# Altium footprint library UserPcbLib.PcbLib: 107 footprints (part 5 of 7)
Each footprint in its own frame and in the unit in brackets; x right, y up, seen from the top. Pads: shape width x height; smd on the part's side, far side on the other; paste and mask are expansions set on the pad; w line width, h text height; cw(c..) or ccw(c..) is an arc to the next point about the centre after c.
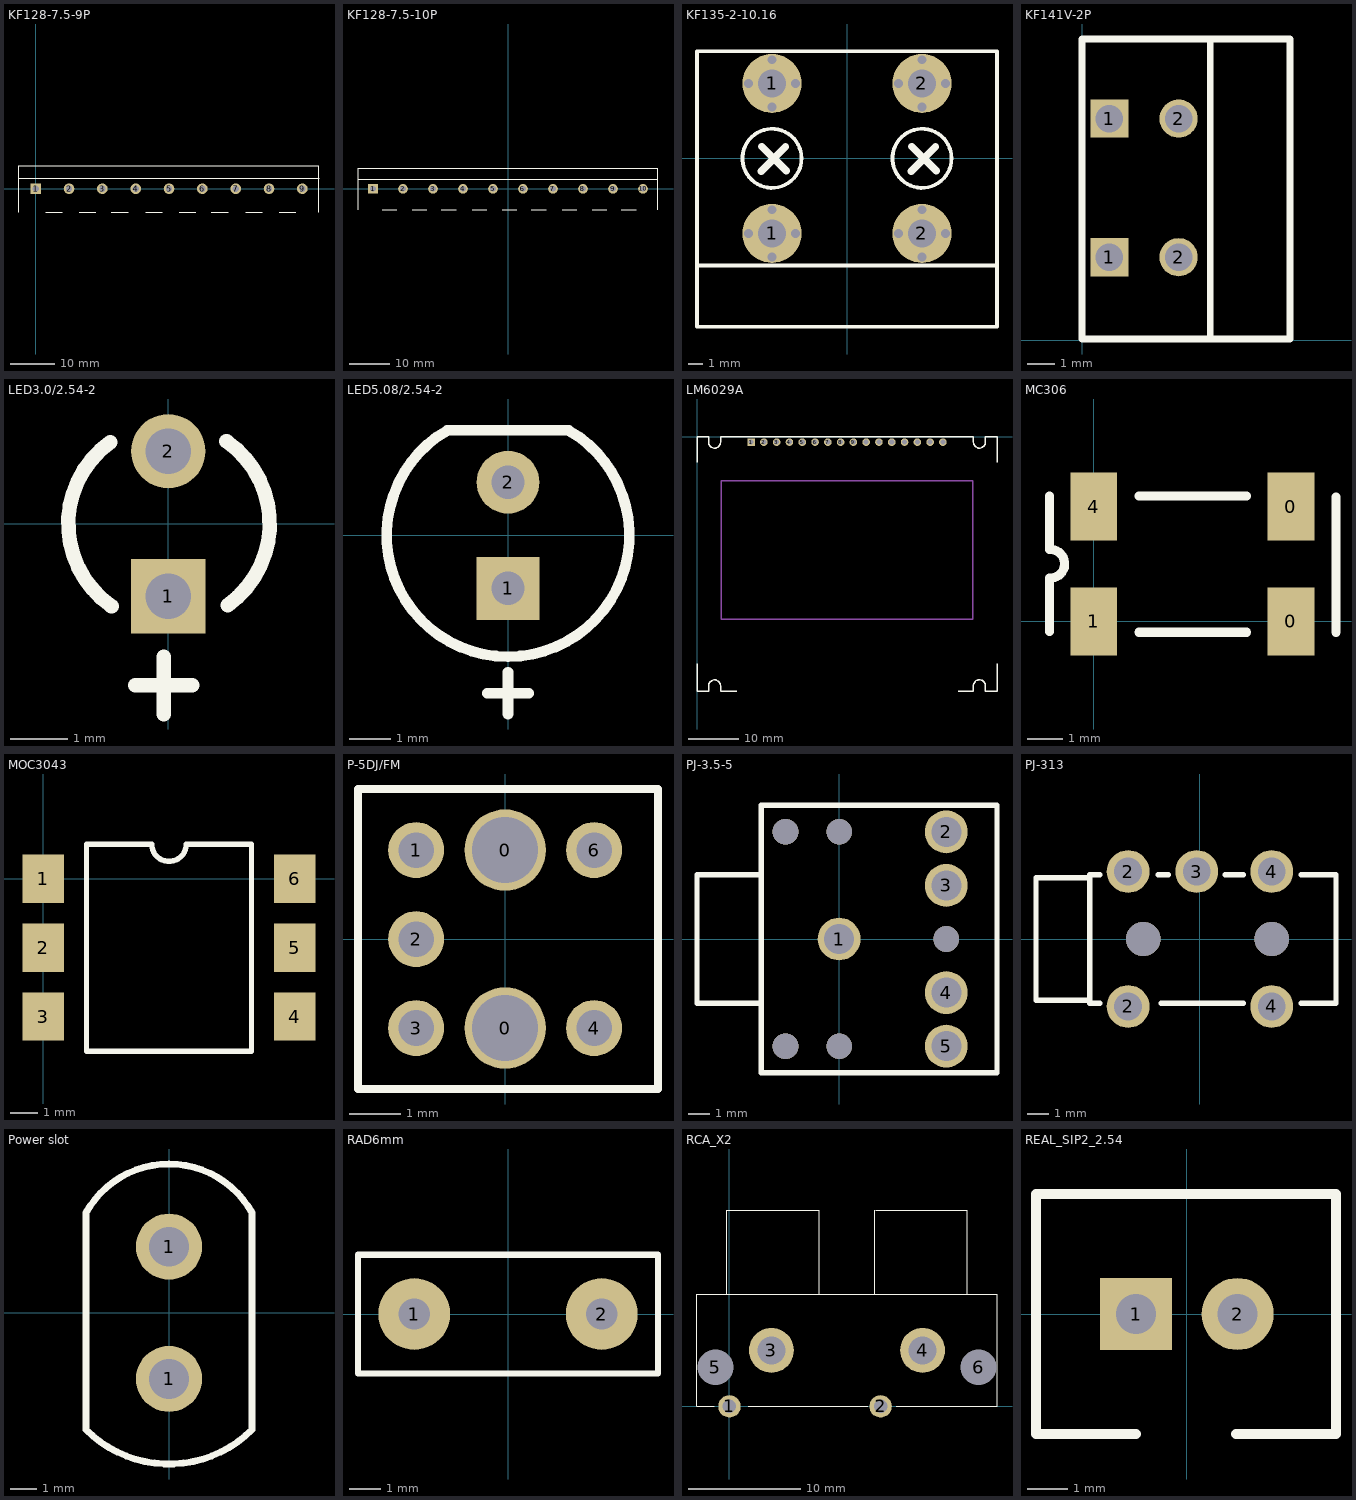
[diagram p4: the footprints below, top view; thin cyan lines are the x and y axes]

## KF128-7.5-9P [mm]
height 14.1
pads (9):
  rect 2.4x2.4 hole 1.4: 1(0,0)
  round 2.4 hole 1.4: 2(7.5,0) 3(15,0) 4(22.5,0) 5(30,0) 6(37.5,0) 7(45,0) 8(52.5,0) 9(60,0)
Top Overlay:
  lines w0.254: -3.766,-5.3 -3.766,5.2 63.734,5.2 63.734,-5.3 ; -3.75,2.406 63.736,2.406 ; 2.256,-5.3 5.988,-5.3 ; 9.756,-5.3 13.488,-5.3 ; 17.033,-5.3 20.764,-5.3 ; 24.756,-5.3 28.488,-5.3 ; 32.256,-5.3 35.988,-5.3 ; 39.533,-5.3 43.264,-5.3 ; 47.256,-5.3 50.988,-5.3 ; 54.756,-5.3 58.488,-5.3
3D body: height 8.5, standoff 0.1, extent -3.766,-5.283 63.715,5.207

## KF128-7.5-10P [mm]
height 14.1
pads (10):
  rect 2.4x2.4 hole 1.4: 1(-33.75,0)
  round 2.4 hole 1.4: 2(-26.25,0) 3(-18.75,0) 4(-11.25,0) 5(-3.75,0) 6(3.75,0) 7(11.25,0) 8(18.75,0) 9(26.25,0) 10(33.75,0)
Top Overlay:
  lines w0.254: -37.5,-5.3 -37.5,5.2 37.5,5.2 37.5,-5.3 ; -37.5,2.406 37.5,2.406 ; -31.494,-5.3 -27.762,-5.3 ; -23.994,-5.3 -20.262,-5.3 ; -16.717,-5.3 -12.986,-5.3 ; -8.994,-5.3 -5.262,-5.3 ; -1.494,-5.3 2.238,-5.3 ; 5.783,-5.3 9.514,-5.3 ; 13.506,-5.3 17.238,-5.3 ; 21.006,-5.3 24.738,-5.3 ; 28.283,-5.3 32.014,-5.3
3D body: height 8.5, standoff 0.1, extent -37.516,-5.283 37.516,5.207

## KF135-2-10.16 [mm]
height 29.5
pads (4):
  round 4 hole 1.9: 1(-5.08,-5.08) 1(-5.08,5.08) 2(5.08,-5.08) 2(5.08,5.08)
via -5.08,-6.68 diameter 0.8 hole 0.6
via -5.08,-3.48 diameter 0.8 hole 0.6
via -6.68,-5.08 diameter 0.8 hole 0.6
via -3.48,-5.08 diameter 0.8 hole 0.6
via 6.68,-5.08 diameter 0.8 hole 0.6
via 3.48,-5.08 diameter 0.8 hole 0.6
via 5.08,-3.48 diameter 0.8 hole 0.6
via 5.08,-6.68 diameter 0.8 hole 0.6
via -3.48,5.08 diameter 0.8 hole 0.6
via -6.68,5.08 diameter 0.8 hole 0.6
via -5.08,6.68 diameter 0.8 hole 0.6
via -5.08,3.48 diameter 0.8 hole 0.6
via 6.68,5.08 diameter 0.8 hole 0.6
via 3.48,5.08 diameter 0.8 hole 0.6
via 5.08,6.68 diameter 0.8 hole 0.6
via 5.08,3.48 diameter 0.8 hole 0.6
Top Overlay:
  circle w0.254: c-5.08,0 r2
  circle w0.254: c5.08,0 r2
  lines w0.254: -10.16,-7.25 10.16,-7.25 ; -10.16,-11.4 10.16,-11.4 10.16,7.25 -10.16,7.25 -10.16,-11.4
  lines w0.5: -5.817,-0.864 -4.166,0.787 ; -5.768,0.803 -4.117,-0.848 ; 4.343,-0.864 5.994,0.787 ; 4.392,0.803 6.043,-0.848
3D body: height 29.5, standoff 0, extent -10.287,-11.4 10.16,7.32

## KF141V-2P [mm] "screwless connector 2 pins"
height 13.8
pads (4):
  rect 1.4x1.4 hole 1: 1(0.991,3.048) 1(0.991,8.128)
  round 1.4 hole 1: 2(3.531,3.048) 2(3.531,8.128)
Top Overlay:
  lines w0.254: 4.69,0.073 4.69,11.048 ; 7.611,10.997 7.611,0.048 -0.009,0.048 -0.009,11.048 7.611,11.048
3D body: height 13.8, standoff 0, extent -0.025,0.051 7.645,11.024

## LED3.0/2.54-2 [mm]
height 5.3
pads (2):
  rect 1.3x1.3 hole 0.8: 1(0,-1.27)
  round 1.3 hole 0.8: 2(0,1.27)
Top Overlay:
  lines w0.254: -1.017,1.424 ccw(c0,0) -0.994,-1.441 ; -0.576,-2.83 0.424,-2.83 ; -0.076,-3.33 -0.076,-2.33 ; 1.019,1.441 cw(c0.025,0) 1.043,-1.424
3D body: height 5.3, standoff 0, extent -1.773,-1.801 1.727,1.699

## LED5.08/2.54-2 [mm]
pads (2):
  rect 1.5x1.5 hole 0.8: 1(0,-1.27)
  round 1.5 hole 0.8: 2(0,1.27)
Top Overlay:
  lines w0.254: -0.5,-3.77 0.5,-3.77 ; 0,-4.27 0,-3.27 ; -1.45,2.511 ccw(c0,0) 1.45,2.511 -1.45,2.511
3D body: height 9.69, standoff 0, extent -2.946,-3.15 2.954,2.75

## LM6029A [mm] "LCD module"
pads (16):
  rect 1.5x1.5 hole 1: 1(10.75,-1.1)
  round 1.5 hole 1: 2(13.29,-1.1) 3(15.83,-1.1) 4(18.37,-1.1) 5(20.91,-1.1) 6(23.45,-1.1) 7(25.99,-1.1) 8(28.53,-1.1) 9(31.07,-1.1) 10(33.61,-1.1) 11(36.15,-1.1) 12(38.69,-1.1) 13(41.23,-1.1) 14(43.77,-1.1) 15(46.31,-1.1) 16(48.85,-1.1)
Top Overlay:
  lines w0.254: 0,-45.085 0,-50.6 2.32,-50.6 2.32,-49.5 cw(c3.5,-49.5) 4.68,-49.5 4.68,-50.603 7.893,-50.603 ; 0,-5.08 0,0 2.32,0 2.32,-1.103 ccw(c3.5,-1.103) 4.68,-1.103 4.68,-0.003 54.914,-0.003 ; 51.914,-50.6 54.915,-50.6 54.915,-49.495 cw(c56.095,-49.495) 57.275,-49.495 57.275,-50.598 ; 54.92,0.003 54.92,-1.1 ccw(c56.1,-1.1) 57.28,-1.1 57.28,0 59.6,0 59.6,-5.08 ; 57.277,-50.6 59.6,-50.6 59.6,-45.085
Mechanical 1:
  lines w0.254: 4.855,-36.29 54.745,-36.29 54.745,-8.8 4.855,-8.8 4.855,-36.29
3D body: height 8.24, standoff 2.54, extent 0,-50.597 59.6,0.003

## MC306 [mm] "Epson 32.768kHz crystal"
height 2.54
pads (4):
  rect 1.3x1.9 smd: 0(5.5,0) 0(5.5,3.2) 1(0,0) 4(0,3.2)
Top Overlay:
  lines w0.254: -1.244,-0.282 -1.244,1.207 ; -1.244,2.006 -1.244,3.495 ; -1.241,2.006 cw(c-1.216,1.607) -1.238,1.207 ; 1.256,-0.305 4.256,-0.305 ; 1.256,3.495 4.256,3.495 ; 6.756,-0.305 6.756,3.469

## MOC3043 [mm]
pads (6):
  rect 1.52x1.78 smd: 1(0,0) 2(0,-2.54) 3(0,-5.08) 4(9.27,-5.08) 5(9.27,-2.54) 6(9.27,0)
Top Overlay:
  lines w0.2: 1.595,-6.35 1.595,1.27 4,1.27 ccw(c4.635,1.27) 5.27,1.27 7.675,1.27 7.675,-6.35 1.595,-6.35

## P-5DJ/FM [mm] "Sumida IFT"
pads (7):
  round 1.6 hole 1.3: 0(0,-1.75) 0(0,1.75)
  round 1.1 hole 0.7: 1(-1.75,1.75) 2(-1.75,0) 3(-1.75,-1.75) 4(1.75,-1.75) 6(1.75,1.75)
Top Overlay:
  lines w0.15: -2.893,-2.949 3.007,-2.949 3.007,2.951 -2.893,2.951 -2.893,-2.949

## PJ-3.5-5 [mm] "Stereo 3.5mm 5 pins phone jack, through hole"
pads (5):
  round 2 hole 1.4: 1(0,0) 2(5,5) 3(5,2.5) 4(5,-2.5) 5(5,-5)
via -2.5,5 diameter 1.2 hole 1.2
via 0,5 diameter 1.2 hole 1.2
via -2.5,-5 diameter 1.2 hole 1.2
via 0,-5 diameter 1.2 hole 1.2
via 5,0 diameter 1.2 hole 1.2
Top Overlay:
  lines w0.254: -3.65,-3 -6.632,-3 -6.632,3 -3.64,3 ; -3.632,-6.25 7.368,-6.25 7.368,6.25 -3.632,6.25 -3.632,-6.25

## PJ-313 [mm] "Phone jack 3.5mm 3 pins"
pads (5):
  round 2 hole 1.3: 2(-3.35,-3.15) 2(-3.35,3.15) 3(-0.15,3.15) 4(3.35,-3.15) 4(3.35,3.15)
via 3.35,0 diameter 1.6 hole 1.6
via -2.65,0 diameter 1.6 hole 1.6
Top Overlay:
  lines w0.254: -5.3,-2.85 -7.65,-2.85 -7.65,2.85 -5.3,2.85 ; -4.68,-3 -5.15,-3 -5.15,3 -4.68,3 ; -1.95,3 -1.48,3 ; -1.799,-3 2.02,-3 ; 1.183,3 2.02,3 ; 4.728,-3 6.35,-3 6.35,3 4.728,3

## Power slot [mm]
pads (2):
  round 2.5 hole 1.5: 1(0,-2.5) 1(0,2.5)
Top Overlay:
  lines w0.254: -3.143,-4.413 ccw(c0,-1.27) 3.143,-4.413 ; -3.134,-4.413 -3.134,3.787 cw(c0,2.032) 3.134,3.787 3.134,-4.413

## RAD6mm [mm]
pads (2):
  round 2.3 hole 1: 1(-3,0) 2(3,0)
Top Overlay:
  lines w0.2: -4.8,-1.9 -4.8,1.9 4.8,1.9 4.8,-1.9 -4.8,-1.9

## RCA_X2 [mm]
pads (6):
  round 2 hole 1.2: 1(0,0) 2(13.5,0)
  round 4 hole 2.5: 3(3.75,5) 4(17.25,5)
  round 3 hole 3.2: 5(-1.25,3.5) 6(22.25,3.5)
Top Overlay:
  lines w0.1: -1.376,0 -2.9,0 -2.9,10 23.9,10 23.9,0 14.88,0 ; -0.25,10 -0.25,17.5 7.95,17.5 ; 1.672,0 12.34,0 ; 8,10 8,17.5 ; 13,10 13,17.5 ; 13.05,17.5 21.25,17.5 21.25,10

## REAL_SIP2_2.54 [mm]
pads (2):
  rect 1.8x1.8 hole 1: 1(-1.27,0)
  round 1.8 hole 1: 2(1.27,0)
Top Overlay:
  lines w0.254: -3.77,2.97 -3.77,-3 -1.27,-3 ; -3.77,3 3.73,3 ; 1.23,-3 3.73,-3 3.73,2.97